# EAGLE library part CY62167EV30-B (library memory-cypress)
SRAM 16-Mbit (1M x 16)
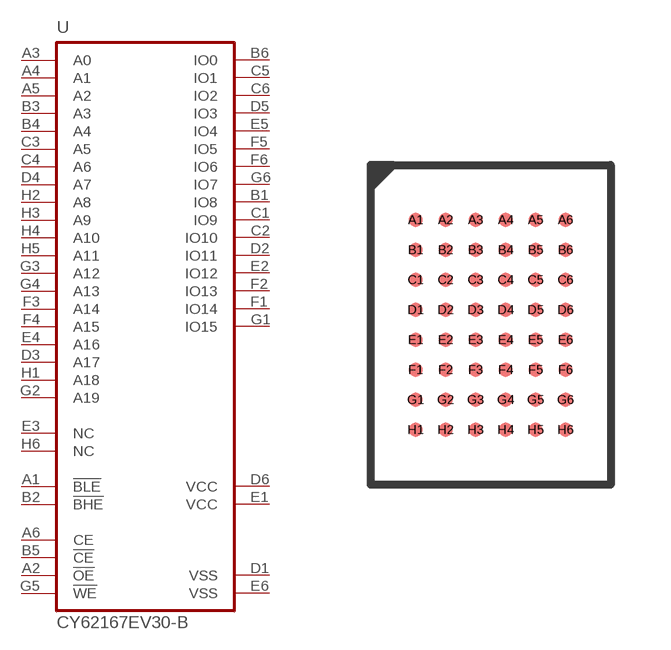
[diagram p1: symbol with the pads of VFBGA48-0608; footprint VFBGA48-0608]

Designator prefix U

## CY62167EV30-B  [VFBGA48-0608]
A1  !BLE!  in
A2  !OE!  in
A3  A0  in
A4  A1  in
A5  A2  in
A6  CE  in
B1  IO8
B2  !BHE!  in
B3  A3  in
B4  A4  in
B5  !CE!  in
B6  IO0
C1  IO9
C2  IO10
C3  A5  in
C4  A6  in
C5  IO1
C6  IO2
D1  VSS  pwr
D2  IO11
D3  A17  in
D4  A7  in
D5  IO3
D6  VCC  pwr
E1  VCC  pwr
E2  IO12
E3  NC
E4  A16  in
E5  IO4
E6  VSS  pwr
F1  IO14
F2  IO13
F3  A14  in
F4  A15  in
F5  IO5
F6  IO6
G1  IO15
G2  A19  in
G3  A12  in
G4  A13  in
G5  !WE!  in
G6  IO7
H1  A18  in
H2  A8  in
H3  A9  in
H4  A10  in
H5  A11  in
H6  NC

## Footprint VFBGA48-0608 (pad centres in mm)
VBGA 48 body 6 x 8 x 1 mm (51-85150)
smd 0.35 x 0.35: A1 -1.875,2.625; A2 -1.125,2.625; A3 -0.375,2.625; A4 0.375,2.625; A5 1.125,2.625; A6 1.875,2.625; B1 -1.875,1.875; B2 -1.125,1.875; B3 -0.375,1.875; B4 0.375,1.875; B5 1.125,1.875; B6 1.875,1.875; C1 -1.875,1.125; C2 -1.125,1.125; C3 -0.375,1.125; C4 0.375,1.125; C5 1.125,1.125; C6 1.875,1.125; D1 -1.875,0.375; D2 -1.125,0.375; D3 -0.375,0.375; D4 0.375,0.375; D5 1.125,0.375; D6 1.875,0.375; E1 -1.875,-0.375; E2 -1.125,-0.375; E3 -0.375,-0.375; E4 0.375,-0.375; E5 1.125,-0.375; E6 1.875,-0.375; F1 -1.875,-1.125; F2 -1.125,-1.125; F3 -0.375,-1.125; F4 0.375,-1.125; F5 1.125,-1.125; F6 1.875,-1.125; G1 -1.875,-1.875; G2 -1.125,-1.875; G3 -0.375,-1.875; G4 0.375,-1.875; G5 1.125,-1.875; G6 1.875,-1.875; H1 -1.875,-2.625; H2 -1.125,-2.625; H3 -0.375,-2.625; H4 0.375,-2.625; H5 1.125,-2.625; H6 1.875,-2.625